# Altium schematic symbol library DF11-24DP-2DS.Schlib: 1 symbol
Pins are listed as number, name and electrical type; pins without a type are passive.

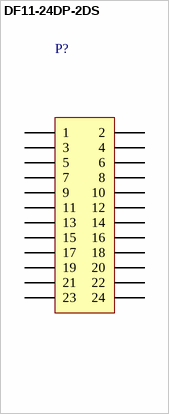
[diagram p0: symbol DF11-24DP-2DS]

## DF11-24DP-2DS
designator P?
Hirose DF11 Series
pins: 1, 2, 3, 4, 5, 6, 7, 8, 9, 10, 11, 12, 13, 14, 15, 16, 17, 18, 19, 20, 21, 22, 23, 24